# Altium schematic symbol library Pulser.SchLib: 2 symbols
Pins are listed as number, name and electrical type; pins without a type are passive.

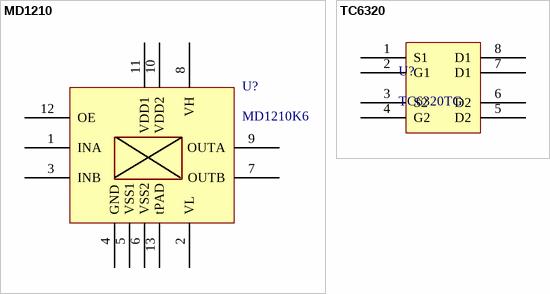
[diagram p0: symbols MD1210 to TC6320]

## MD1210
designator U?, comment MD1210K6
footprint QFN-12 4x4mm (0.8 mm pitch)
pins: 1 INA, 2 VL, 3 INB, 4 GND, 5 VSS1, 6 VSS2, 7 OUTB, 8 VH, 9 OUTA, 10 VDD2, 11 VDD1, 12 OE, 13 tPAD

## TC6320
designator U?, comment TC6320TG
N- and P-Channel  Enhancement-Mode MOSFET Pair
footprint SOIC127P600-8N (SOIC, 8-Leads, Body 4.9x3.9mm, Pitch 1.27mm, IPC Medium Density)
pins: 1 S1, 2 G1, 3 S2, 4 G2, 5 D2, 6 D2, 7 D1, 8 D1